# Altium footprint library 8bit.PcbLib: 2 footprints
Each footprint in its own frame and in the unit in brackets; x right, y up, seen from the top. Pads: shape width x height; smd on the part's side, far side on the other; paste and mask are expansions set on the pad; w line width, h text height; cw(c..) or ccw(c..) is an arc to the next point about the centre after c.
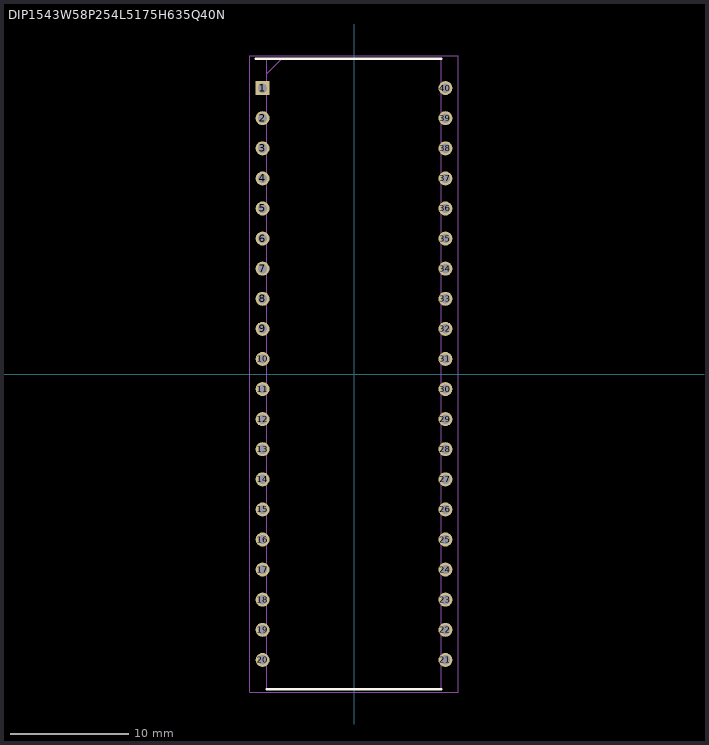
[diagram p0: the footprints below, top view; thin cyan lines are the x and y axes]

## DIP1543W58P254L5175H635Q40N [mm]
pads (40):
  rect 1.184x1.184 hole 0.784: 1(-7.715,24.13)
  round 1.184 hole 0.784: 2(-7.715,21.59) 3(-7.715,19.05) 4(-7.715,16.51) 5(-7.715,13.97) 6(-7.715,11.43) 7(-7.715,8.89) 8(-7.715,6.35) 9(-7.715,3.81) 10(-7.715,1.27) 11(-7.715,-1.27) 12(-7.715,-3.81) 13(-7.715,-6.35) 14(-7.715,-8.89) 15(-7.715,-11.43) 16(-7.715,-13.97) 17(-7.715,-16.51) 18(-7.715,-19.05) 19(-7.715,-21.59) 20(-7.715,-24.13) 21(7.715,-24.13) 22(7.715,-21.59) 23(7.715,-19.05) 24(7.715,-16.51) 25(7.715,-13.97) 26(7.715,-11.43) 27(7.715,-8.89) 28(7.715,-6.35) 29(7.715,-3.81) 30(7.715,-1.27) 31(7.715,1.27) 32(7.715,3.81) 33(7.715,6.35) 34(7.715,8.89) 35(7.715,11.43) 36(7.715,13.97) 37(7.715,16.51) 38(7.715,19.05) 39(7.715,21.59) 40(7.715,24.13)
Top Overlay:
  lines w0.2: -8.307,26.606 7.366,26.606 ; -7.366,-26.606 7.366,-26.606
Mechanical 13:
  lines w0.1: -7.366,25.336 -6.096,26.606 ; -7.366,-26.606 -7.366,26.606 7.366,26.606 7.366,-26.606 -7.366,-26.606
Mechanical 15:
  lines w0.05: -8.78,-26.856 -8.78,26.856 8.78,26.856 8.78,-26.856 -8.78,-26.856
3D body "ATMEGA4809-PF.stp": height 6.35, standoff -3.5, extent -7.861,-25.876 7.861,25.876

## PCBComponent_1 [mil]